# Altium schematic symbol library NC7SZ157.SchLib: 1 symbol
Pins are listed as number, name and electrical type; pins without a type are passive.

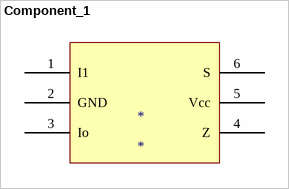
[diagram p0: symbol Component_1]

## Component_1
designator *
pins: 1 I1, 2 GND, 3 Io, 4 Z, 5 Vcc, 6 S